# EAGLE library part ESP32-CAM (library CDC Library v131)
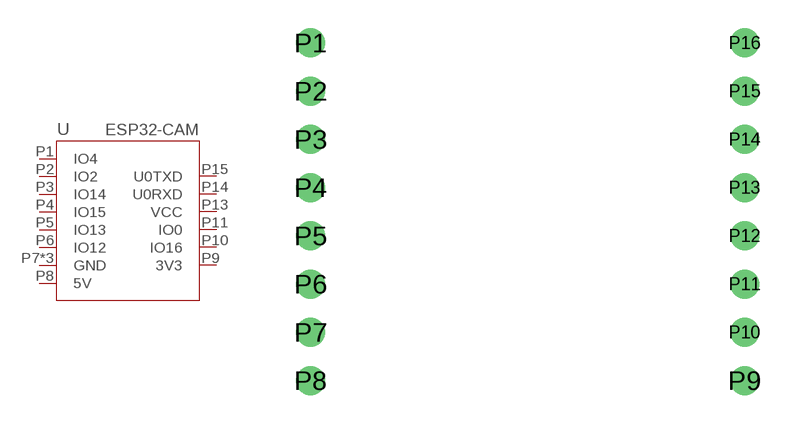
[diagram p14: symbol with the pads of ESP32-CAM-FOOTPRINT; footprint ESP32-CAM-FOOTPRINT]

Designator prefix -

## ESP32-CAM  [ESP32-CAM-FOOTPRINT]
P1  IO4
P2  IO2
P3  IO14
P4  IO15
P5  IO13
P6  IO12
P7  GND
P8  5V
P9  3V3
P10  IO16
P11  IO0
P12  GND
P13  VCC
P14  U0RXD
P15  U0TXD
P16  GND

## Footprint ESP32-CAM-FOOTPRINT (pad centres in mm)
drill 1.016: P1 -11.43,8.89; P2 -11.43,6.35; P3 -11.43,3.81; P4 -11.43,1.27; P5 -11.43,-1.27; P6 -11.43,-3.81; P7 -11.43,-6.35; P8 -11.43,-8.89; P9 11.43,-8.89; P10 11.43,-6.35; P11 11.43,-3.81; P12 11.43,-1.27; P13 11.43,1.27; P14 11.43,3.81; P15 11.43,6.35; P16 11.43,8.89